# Altium schematic symbol library Schlib1.SchLib: 8 symbols
Pins are listed as number, name and electrical type; pins without a type are passive.

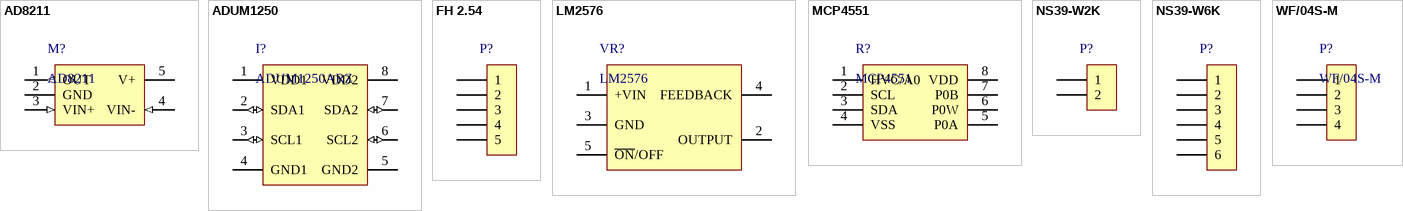
[diagram p0: symbols AD8211 to WF/04S-M]

## AD8211
designator M?
Current Shunt Monitor
pins: 1 OUT (out), 2 GND (power), 3 VIN+ (in), 4 VIN- (in), 5 V+ (power)

## ADUM1250
designator I?, comment ADUM1250ARZ
Hot Swappable, Dual I2C Isolator
footprint SO8_N (SOIC, 8-Leads, Body 4.9x3.9mm, Pitch 1.27mm, IPC Medium Density)
pins: 1 VDD1 (power), 2 SDA1 (io), 3 SCL1 (io), 4 GND1 (power), 5 GND2 (power), 6 SCL2 (io), 7 SDA2 (io), 8 VDD2 (power)

## FH 2.54
designator P?
Socket
pins: 1, 2, 3, 4, 5

## LM2576
designator VR?
Step-Down Voltage Regulator
pins: 1 +VIN (power), 2 OUTPUT (power), 3 GND (power), 4 FEEDBACK (power), 5 ~{ON}/OFF (power)

## MCP4551
designator R?
Digital POT
pins: 1 HVC/A0, 2 SCL (oc), 3 SDA (oc), 4 VSS (power), 5 P0A, 6 P0W, 7 P0B, 8 VDD (power)

## NS39-W2K
designator P?
Socket
footprint NS39-W2k
pins: 1, 2

## NS39-W6K
designator P?
Socket
footprint NS39-W6K
pins: 1, 2, 3, 4, 5, 6

## WF/04S-M
designator P?
Socket
footprint WF/04S-M
pins: 1, 2, 3, 4